# Altium schematic symbol library PRTR5V0U2X.SchLib: 1 symbol
Pins are listed as number, name and electrical type; pins without a type are passive.

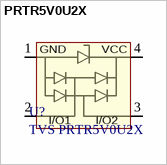
[diagram p0: symbol PRTR5V0U2X]

## PRTR5V0U2X
designator U?, comment TVS PRTR5V0U2X
TVS Didode dual PRTR5V0U2X; Manufacturer: NXP; MPN: PRTR5V0U2X; Farnell Pn: 1524157; Digi-Key: 568-4140-1-ND
footprint SOT143B-M (SOT143, 4-Leads, Body 3,0x2,6mm (max), Pitch 1,92mm, IPC Medium Density)
pins: 1 GND, 2 I/O1, 3 I/O2, 4 VCC